# Altium schematic symbol library PH_HEADER_6_WAY.SchLib: 1 symbol
Pins are listed as number, name and electrical type; pins without a type are passive.

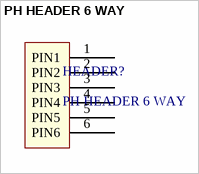
[diagram p0: symbol PH HEADER 6 WAY]

## PH HEADER 6 WAY
designator HEADER?
footprint PH CONNECTOR 6 WAY
pins: 1 PIN1, 2 PIN2, 3 PIN3, 4 PIN4, 5 PIN5, 6 PIN6